# Altium schematic symbol library R_4up.SchLib: 1 symbol
Pins are listed as number, name and electrical type; pins without a type are passive.

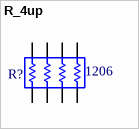
[diagram p0: symbol R_4up]

## R_4up
designator R?, comment 1206
pins: 1, 2, 3, 4, 5, 6, 7, 8